# Altium schematic symbol library V_10.SchLib: 4 symbols
Pins are listed as number, name and electrical type; pins without a type are passive.

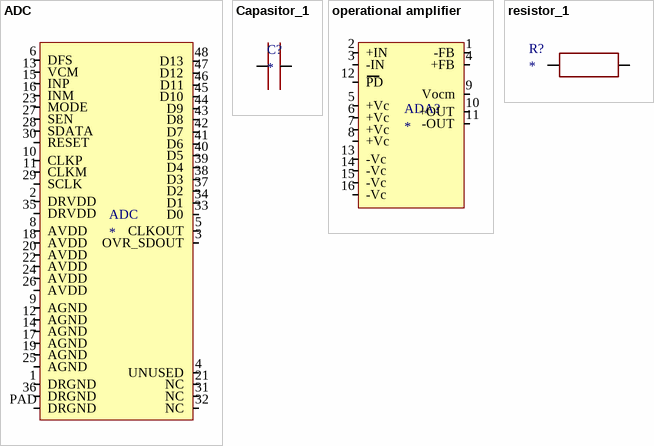
[diagram p0: symbols ADC to resistor_1]

## ADC
designator ADC
model: *; manufactor: *
footprint PCBComponent_1 - duplicate2
pins: 1 DRGND, 2 DRVDD (power), 3 OVR_SDOUT (out), 4 UNUSED, 5 CLKOUT (out), 6 DFS (in), 8 AVDD (power), 9 AGND, 10 CLKP (in), 11 CLKM (in), 12 AGND, 13 VCM (in), 14 AGND, 15 INP (in), 16 INM (in), 17 AGND, 18 AVDD (power), 19 AGND, 20 AVDD (power), 21 NC, 22 AVDD (power), 23 MODE (in), 24 AVDD (power), 25 AGND, 26 AVDD (power), 27 SEN (in), 28 SDATA (in), 29 SCLK (in), 30 RESET (in), 31 NC, 32 NC, 33 D0 (out), 34 D1 (out), 35 DRVDD (power), 36 DRGND, 37 D2 (out), 38 D3 (out), 39 D4 (out), 40 D5 (out), 41 D6 (out), 42 D7 (out), 43 D8 (out), 44 D9 (out), 45 D10 (out), 46 D11 (out), 47 D12 (out), 48 D13 (out), PAD DRGND

## Capasitor_1
designator C?
manufactor: *; value: *; model: *
footprint PCBComponent_1 - duplicate
pins: 0, 1

## operational amplifier
designator ADA?
model: *; manufactor: *
footprint PCBComponent_1 - duplicate1
pins: 1 -FB (out), 2 +IN (in), 3 -IN (in), 4 +FB (out), 5 +Vc (power), 6 +Vc (power), 7 +Vc (power), 8 +Vc (power), 9 Vocm, 10 +OUT (out), 11 -OUT (out), 12 PD (in), 13 -Vc, 14 -Vc, 15 -Vc, 16 -Vc

## resistor_1
designator R?
model: *; manufactor: *; value: *
footprint PCBComponent_1
pins: 0, 1